# EAGLE library part DFPLAYER-MINI (library CaliBeta-Modulos)
DFPlayer Mini - Modulo reproductor de MP3 basado en el IC YX5200 Mas detalles disponibles aqui>https://www.dfrobot.com/wiki/index.php/DFPlayer_Mini_SKU:DFR0299
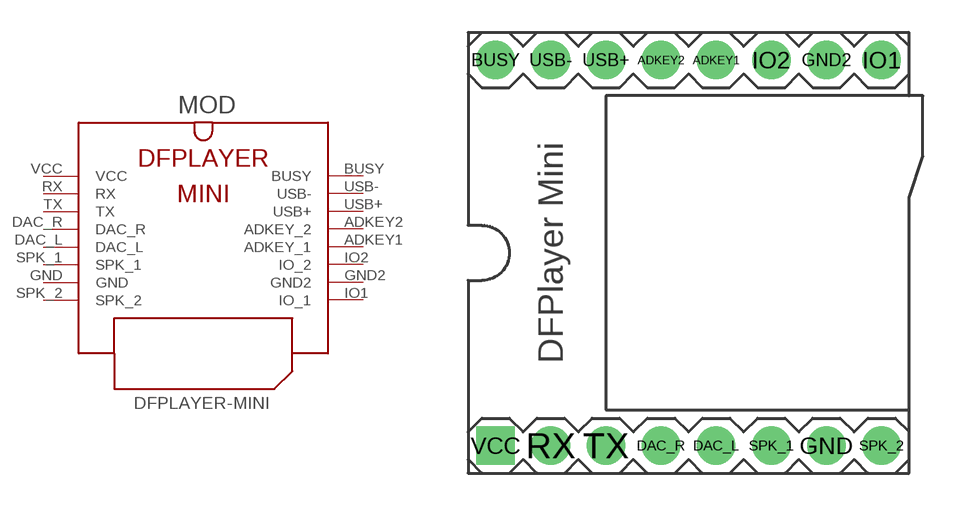
[diagram p9: symbol with the pads of DFPLAYER-MINI; footprint DFPLAYER-MINI]

Designator prefix MOD

## DFPLAYER-MINI  [DFPLAYER-MINI]
ADKEY1  ADKEY_1
ADKEY2  ADKEY_2
BUSY  BUSY
DAC_L  DAC_L
DAC_R  DAC_R
GND  GND  pwr
GND2  GND2  pwr
IO1  IO_1
IO2  IO_2
RX  RX
SPK_1  SPK_1
SPK_2  SPK_2
TX  TX
USB+  USB+
USB-  USB-
VCC  VCC  pwr

## Footprint DFPLAYER-MINI (pad centres in mm)
drill 1 pad 1.778: ADKEY1 1.27,8.89; ADKEY2 -1.27,8.89; BUSY -8.89,8.89; DAC_L 1.27,-8.89; DAC_R -1.27,-8.89; GND 6.35,-8.89; GND2 6.35,8.89; IO1 8.89,8.89; IO2 3.81,8.89; RX -6.35,-8.89; SPK_1 3.81,-8.89; SPK_2 8.89,-8.89; TX -3.81,-8.89; USB+ -3.81,8.89; USB- -6.35,8.89
drill 1 pad 1.778 square: VCC -8.89,-8.89